# Altium schematic symbol library CVHD-950.SchLib: 1 symbol
Pins are listed as number, name and electrical type; pins without a type are passive.

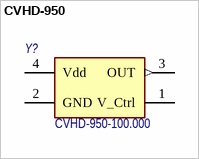
[diagram p0: symbol CVHD-950]

## CVHD-950
designator Y?, comment CVHD-950-100.000
XTAL OSC VCXO 50.0000MHZ CMOS; Manufacturer: Crystek Corporation; Manufacturer Part Number: CVHD-950-50.000; Load Capacitance: 15pF; Frequency: 40-130MHz; Stability: 20ppm; Min Supply Voltage: 3V; Max Supply Current: 25mA; Max Supply Voltage: 3.6V; Поребление, Вт: 0.1; Category: Crys; Lead Free: Yes; Series: CVHD-950; Automotive: No; Device Class L3: Oscillators; Device Class L2: Crystals / Oscillators; Mouser Description: Xtal Osc Vcxo 50.0000MHZ Cmos; Temperature: 0°C to +70°C; Temperature Range High: +70°C; Device Class L1: Passive Components; Digikey Description: XTAL OSC VCXO 50.0000MHZ CMOS; Height: 5.3mm; Temperature Range Low: 0°C; ComponentLink2URL: http://www.crystek.com/crystal/spec-sheets/vcxo/CVHD-950.pdf; RoHS: TRUE; ComponentLink2Description: Datasheet; Package: CVHD-950-50.000; Octopart: https://octopart.com/cvhd-950-50.000-crystek+crystals-19185436; Назначение: XTAL OSC VCXO 50.0000MHZ CMOS; Наименование: CVHD-950-100.000
footprint FP-CVHD-950
pins: 1 V_Ctrl, 2 GND (power), 3 OUT (out), 4 Vdd (power)